# Altium footprint library Sub1G_V2.2_ZM_revA_20160823.PcbLib: 21 footprints (part 1 of 2)
Each footprint in its own frame and in the unit in brackets; x right, y up, seen from the top. Pads: shape width x height; smd on the part's side, far side on the other; paste and mask are expansions set on the pad; w line width, h text height; cw(c..) or ccw(c..) is an arc to the next point about the centre after c.
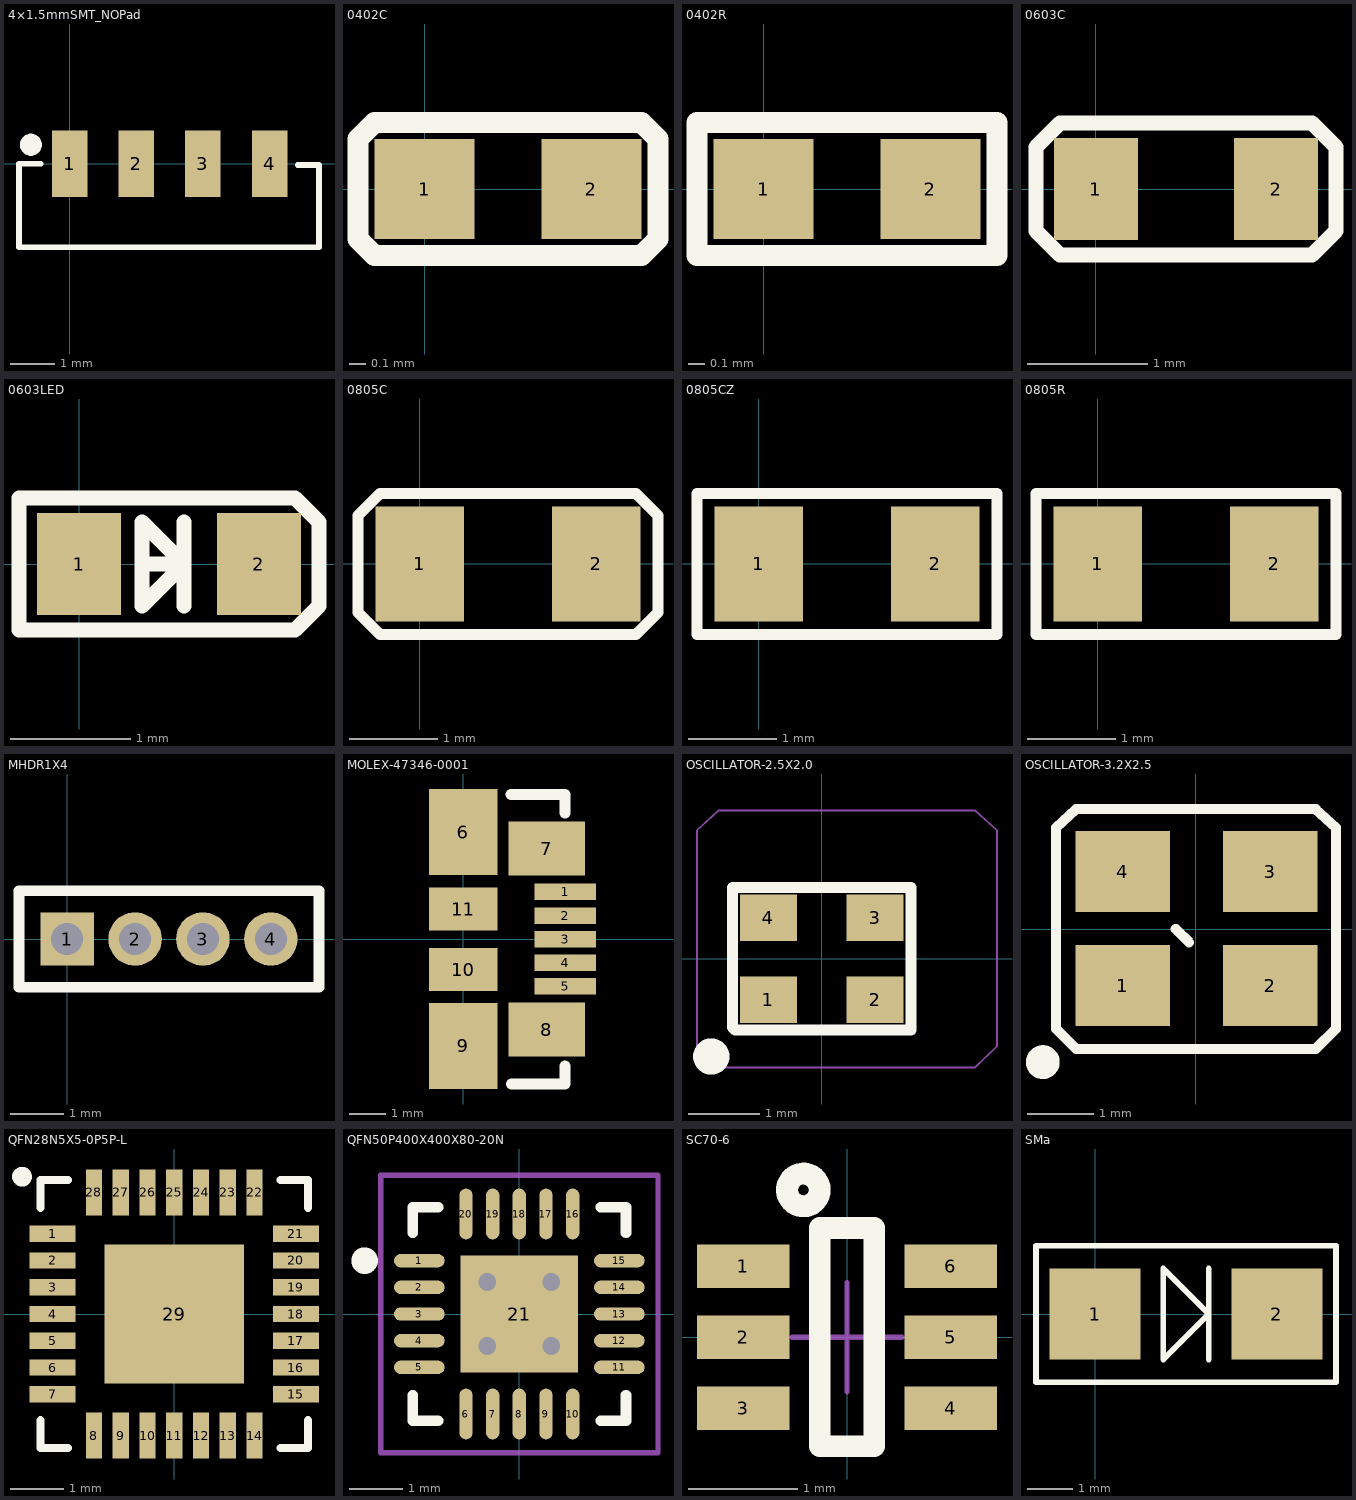
[diagram p0: the footprints below, top view; thin cyan lines are the x and y axes]

## 4×1.5mmSMT_NOPad [mm]
height 1.4
pads (5):
  rect 0.8x1.5 smd: 1(0,0) 2(1.5,0) 3(3,0) 4(4.5,0)
  round 0.5 on Top Overlay: ""(-0.875,0.432)
Top Overlay:
  lines w0.127: -0.65,0 -1.143,0 -1.143,-1.88 5.613,-1.88 5.613,-0.025 5.131,-0.025

## 0402C [mm]
pads (2):
  rect 0.6x0.6 smd: 1(0,0) 2(1,0)
Top Overlay:
  lines w0.127: -0.4,-0.3 -0.4,0.3 ; -0.4,-0.3 -0.4,-0.3 ; -0.4,-0.3 -0.3,-0.4 1.3,-0.4 ; -0.4,0.3 -0.4,0.3 ; -0.4,0.3 -0.3,0.4 1.3,0.4 1.4,0.3 ; 1.3,-0.4 1.3,-0.4 ; 1.3,-0.4 1.4,-0.3 ; 1.4,-0.3 1.4,0.3 ; 1.4,-0.3 1.4,-0.3 ; 1.4,0.3 1.4,0.3

## 0402R [mm]
pads (2):
  rect 0.6x0.6 smd: 1(0,0) 2(1,0)
Top Overlay:
  lines w0.127: -0.4,-0.4 1.4,-0.4 1.4,0.4 -0.4,0.4 -0.4,-0.4

## 0603C [mm]
pads (2):
  rect 0.7x0.85 smd: 1(0,0) 2(1.5,0)
Top Overlay:
  lines w0.127: -0.5,-0.35 -0.5,0.35 -0.3,0.55 1.8,0.55 2,0.35 2,-0.35 1.8,-0.55 -0.3,-0.55 -0.5,-0.35

## 0603LED [mm]
pads (2):
  rect 0.7x0.85 smd: 1(0,0) 2(1.5,0)
Top Overlay:
  lines w0.127: 0.525,0 0.875,0 ; 0.875,-0.35 0.875,0.35 ; 0.875,0 0.525,0.35 0.525,-0.35 0.875,0 ; -0.5,-0.55 -0.5,0.55 1.8,0.55 2,0.35 2,-0.35 1.8,-0.55 -0.5,-0.55

## 0805C [mm]
pads (2):
  rect 1x1.3 smd: 1(0,0) 2(2,0)
Top Overlay:
  lines w0.127: 2.45,-0.8 2.7,-0.55 2.7,0.55 2.45,0.8 -0.45,0.8 -0.7,0.55 -0.7,-0.55 -0.45,-0.8 2.45,-0.8 ; 2.45,-0.8 2.45,-0.8

## 0805CZ [mm]
pads (2):
  rect 1x1.3 smd: 1(0,0) 2(2,0)
Top Overlay:
  lines w0.127: -0.7,-0.8 2.7,-0.8 2.7,0.8 -0.7,0.8 -0.7,-0.8 ; 2.45,-0.8 2.45,-0.8

## 0805R [mm]
pads (2):
  rect 1x1.3 smd: 1(0,0) 2(2,0)
Top Overlay:
  lines w0.127: -0.7,-0.8 -0.7,0.8 2.7,0.8 2.7,-0.8 -0.7,-0.8 ; 2.45,-0.8 2.45,-0.8

## MHDR1X4 [mm] "Connector; Header; 4 Position"
height 6.5
pads (4):
  rect 1x1 hole 0.6: 1(0,0)
  round 1 hole 0.6: 2(1.27,0) 3(2.54,0) 4(3.81,0)
Top Overlay:
  lines w0.2: -0.9,-0.9 -0.9,0.9 4.71,0.9 4.71,-0.9 -0.9,-0.9

## MOLEX-47346-0001 [mil]
pads (11):
  rect 67x18 smd: 1(111,52) 2(111,26) 3(111,0) 4(111,-25.59) 5(111,-51.18)
  rect 75x94 smd: 6(0,117) 9(0,-116.14)
  rect 83x59 smd: 7(91,99) 8(91,-98.43)
  rect 75x47 smd: 10(0,-32.97) 11(0,33)
Top Overlay:
  lines w12: 52,158 111,158 111,138 ; 52.52,-157.48 111,-157.48 111,-137.8
Mechanical 16:
  lines w1: 107,150 111,146

## OSCILLATOR-2.5X2.0 [mm] "OSCILLATOR-3.2X2.5"
pads (4):
  rect 0.8x0.65 smd: 1(-0.75,-0.575) 2(0.75,-0.575) 3(0.75,0.575) 4(-0.75,0.575)
Top Overlay:
  circle w0.305: c-1.549,-1.372 r0.102
  lines w0.152: -1.25,-0.965 -1.215,-1 1.25,-1 1.25,1 -1.25,1 -1.25,-0.965
Mechanical 16:
  lines w0.025: -1.75,-1.225 -1.45,-1.525 2.153,-1.525 2.458,-1.225 2.458,1.799 2.153,2.078 -1.45,2.078 -1.75,1.799 -1.75,-1.225

## OSCILLATOR-3.2X2.5 [mil] "OSCILLATOR-3.2X2.5"
pads (4):
  rect 56x48 smd: 1(-43.31,-33.46) 2(44,-33.46) 3(44,34) 4(-43.31,34)
Top Overlay:
  circle w12: c-90.55,-78.74 r4
  lines w6: -11.81,0 -3.94,-7.87 ; -82.68,-59.06 -82.68,60 -70.87,71 71,71 83,60 83,-59.06 71,-70.87 -70.87,-70.87 -82.68,-59.06
Mechanical 16:
  lines w1: -82.68,-59.06 -82.68,60 -70.87,71 71,71 83,60 83,-59.06 71,-70.87 -70.87,-70.87 -82.68,-59.06

## QFN28N5X5-0P5P-L [mil]
pads (29):
  rect 34x12 smd mask+5: 1(-89.5,59.06) 2(-89.5,39.37) 3(-89.5,19.68) 4(-89.5,0) 5(-89.5,-19.68) 6(-89.5,-39.37) 7(-89.5,-59.06) 15(89.5,-59.06) 16(89.5,-39.37) 17(89.5,-19.68) 18(89.5,0) 19(89.5,19.68) 20(89.5,39.37) 21(89.5,59.06)
  rect 12x34 smd mask+5: 8(-59.06,-89.5) 9(-39.37,-89.5) 10(-19.68,-89.5) 11(0,-89.5) 12(19.68,-89.5) 13(39.37,-89.5) 14(59.06,-89.5) 22(59.06,89.5) 23(39.37,89.5) 24(19.68,89.5) 25(0,89.5) 26(-19.68,89.5) 27(-39.37,89.5) 28(-59.06,89.5)
  rect 102.36x102.36 smd mask+5: 29(0,0)
Top Overlay:
  circle w10: c-112,101 r2.24
  lines w6: -98.5,-78.16 -98.5,-98.5 -78.16,-98.5 ; -98.5,78.16 -98.5,98.5 -78.16,98.5 ; 78.16,-98.5 98.5,-98.5 98.5,-78.16 ; 78.16,98.5 98.5,98.5 98.5,78.16

## QFN50P400X400X80-20N [mm] "QFN, 20-Leads, Body 4.0x4.0mm (max), Pitch 0.50mm, IPC Medium Density"
height 0.8
pads (21):
  oval 0.95x0.25 smd: 1(-1.875,1) 2(-1.875,0.5) 3(-1.875,0) 4(-1.875,-0.5) 5(-1.875,-1) 11(1.875,-1) 12(1.875,-0.5) 13(1.875,0) 14(1.875,0.5) 15(1.875,1)
  oval 0.25x0.95 smd: 6(-1,-1.875) 7(-0.5,-1.875) 8(0,-1.875) 9(0.5,-1.875) 10(1,-1.875) 16(1,1.875) 17(0.5,1.875) 18(0,1.875) 19(-0.5,1.875) 20(-1,1.875)
  rect 2.2x2.2 smd: 21(0,0)
via 0.6,-0.6 diameter 0.66 hole 0.33
via -0.6,-0.6 diameter 0.66 hole 0.33
via 0.6,0.6 diameter 0.66 hole 0.33
via -0.6,0.6 diameter 0.66 hole 0.33
Top Overlay:
  circle w0.25: c-2.9,1 r0.125
  lines w0.2: -2,-1.525 -2,-2 -1.525,-2 ; -2,1.525 -2,2 -1.525,2 ; 1.525,-2 2,-2 2,-1.525 ; 1.525,2 2,2 2,1.525
Mechanical 15:
  lines w0.1: -0.5,0 0.5,0 ; 0,-0.5 0,0.5 ; -2.6,-2.6 2.6,-2.6 2.6,2.6 -2.6,2.6 -2.6,-2.6

## SC70-6 [mm] "SC70 6-Leads, Body 2.0x1.25mm, Pitch 0.65mm"
height 1.45
pads (6):
  rect 0.85x0.4 smd mask+0.05: 1(-0.95,0.65) 2(-0.95,0) 3(-0.95,-0.65) 4(0.95,-0.65) 5(0.95,0) 6(0.95,0.65)
Top Overlay:
  circle w0.2: c-0.4,1.35 r0.15
  lines w0.2: -0.25,-1 -0.25,1 0.25,1 0.25,-1 -0.25,-1
Mechanical 15:
  lines w0.05: -0.5,0 0.5,0 ; 0,-0.5 0,0.5
3D body: height 1.45, standoff 0, extent -0.625,-1 0.625,1

## SMa [mm]
height 5.1
pads (2):
  rect 2x2 smd: 1(0,0) 2(4,0)
Top Overlay:
  lines w0.127: 2.5,-1 2.5,1 ; -1.3,-1.5 -1.3,1.5 5.3,1.5 5.3,-1.5 -1.3,-1.5 ; 1.5,-1 1.5,1 2.5,0 1.5,-1